# EAGLE library part 6P-NANO-SIM-CARD-CONN-SMT (library OPL_Connector)
Seeed SKU 320100008 - SMD Nano SIM Card Holder MPN: N/A This part does not have a part number provided by the manufacturer. Please refer to the datasheet for more details. Seeed Fusion PCBA OPL <https://www.seeedstudio.com/opl.html> Order PCB/PCBA Now <https://www.seeedstudio.com/fusion_pcb.html> www.seeedstudio.com
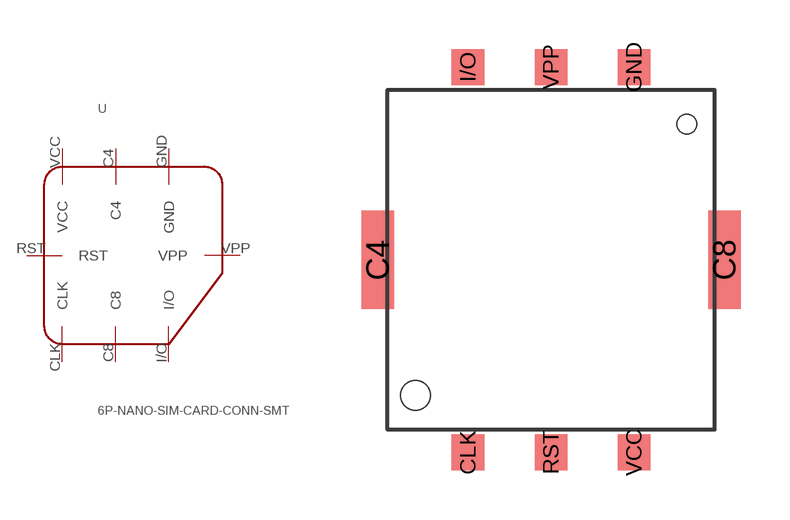
[diagram p20: symbol with the pads of 6PIN-NANO-SIM-SMT; footprint 6PIN-NANO-SIM-SMT]

Designator prefix -

## 6P-NANO-SIM-CARD-CONN-SMT  [6PIN-NANO-SIM-SMT]
C4  C4
C8  C8
CLK  CLK
GND  GND
I/O  I/O
RST  RST
VCC  VCC
VPP  VPP

## Footprint 6PIN-NANO-SIM-SMT (pad centres in mm)
smd 1 x 3: C4 -2.765,5.9; C8 7.845,5.9
smd 1 x 1.1: CLK 0,0; GND 5.08,11.8; I/O 0,11.8; RST 2.54,0; VCC 5.08,0; VPP 2.54,11.8
hole 0.9 at -1.61,1.75
hole 0.6 at 6.69,10.05